# Altium footprint library CustomFootprints.PcbLib: 67 footprints (part 1 of 5)
Each footprint in its own frame and in the unit in brackets; x right, y up, seen from the top. Pads: shape width x height; smd on the part's side, far side on the other; paste and mask are expansions set on the pad; w line width, h text height; cw(c..) or ccw(c..) is an arc to the next point about the centre after c.
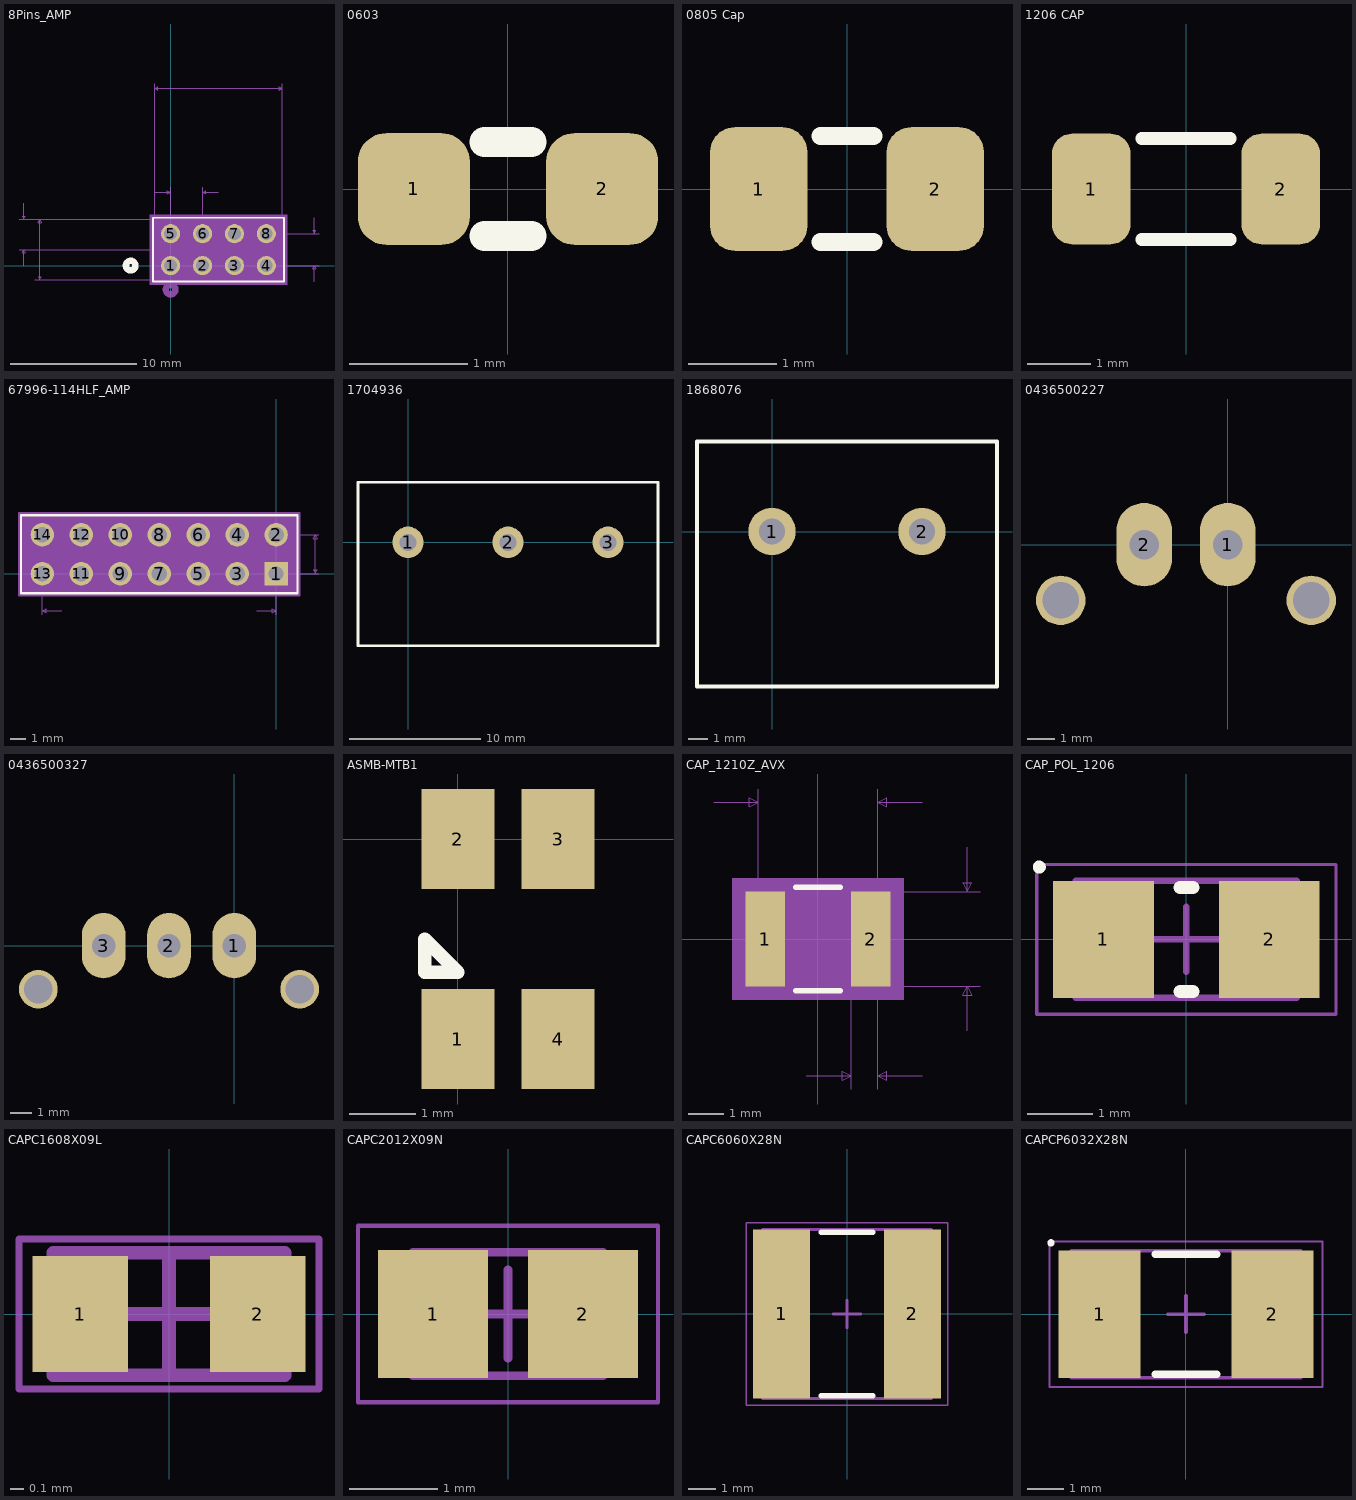
[diagram p0: the footprints below, top view; thin cyan lines are the x and y axes]

## 8Pins_AMP [mil]
pads (8):
  round 60 hole 40 mask+0: 1(0,0) 2(100,0) 3(200,0) 4(300,0) 5(0,100) 6(100,100) 7(200,100) 8(300,100)
Top Overlay:
  circle w20: c-125,0 r15
  lines w6: -55,-50 -55,150 355,150 355,-50 -55,-50
Bottom Overlay:
  circle w20: c-125,0 r15
Mechanical 5:
  region: -65,160 365,160 365,-60 -65,-60
Mechanical 7:
  lines w1: -475,50 150,50 ; -475,145 -50,145 ; -460,0 -460,50 ; -460,195 -460,145 ; -425,-45 -50,-45 ; -425,145 -50,145 ; -50,230 0,230 ; -50,570 -50,145 ; 0,100 465,100 ; 0,245 0,0 465,0 ; 100,0 100,245 ; 150,230 100,230 ; 350,145 350,570 ; 450,-50 450,0 ; 450,150 450,100 ; -460,50 -455,40 -465,40 -460,50 ; -460,145 -455,155 -465,155 -460,145 ; -410,-45 -405,-35 -415,-35 -410,-45 ; -410,-45 -410,145 ; -410,145 -405,135 -415,135 -410,145 ; -50,555 -40,550 -40,560 -50,555 ; -50,555 350,555 ; 0,230 -10,225 -10,235 0,230 ; 100,230 110,225 110,235 100,230 ; 350,555 340,550 340,560 350,555 ; 450,0 455,-10 445,-10 450,0 ; 450,100 455,110 445,110 450,100
  text "0.19in/4.826mm" at -605,37.5 h25
  text "0.095in/2.413mm" at -667.5,85 h25
  text "0.1in/2.54mm" at 470,37.5 h25
  text "0.4in/10.16mm" at 68.75,575 h25
  text "0.1in/2.54mm" at -50,250 h25
  text "Alt Padstyle 2: OX90Y60D30P" at -187.5,-730 h50
  text "Alt Padstyle 1: OX60Y90D30P" at -187.5,-655 h50
  text "Right Mtg Padstyle: EX60Y60D30P" at -237.5,-580 h50
  text "Left Mtg Padstyle: EX60Y60D30P" at -225,-505 h50
  text "3rd Mtg Padstyle: EX70Y70D70P" at -212.5,-430 h50
  text "2nd Mtg Padstyle: EX70Y70D70P" at -212.5,-355 h50
  text "1st Mtg Padstyle: EX80Y80D50P" at -212.5,-280 h50
  text "Default Padstyle: EX60Y60D40P" at -212.5,-205 h50
Mechanical 13:
  circle w20: c0,-75 r15
  lines w1: -50,-45 -50,145 350,145 350,-45 -50,-45
Mechanical 15:
  region: 360,155 -60,155 -60,-55 360,-55
  lines w6: -60,-55 360,-55 360,155 -60,155 -60,-55
3D body: height 10, standoff 0, extent 0,0 10,10

## 0603 [mm]
height 1.3
pads (2):
  rrect50% 0.95x0.95 smd: 1(-0.8,0) 2(0.8,0)
Top Overlay:
  lines w0.254: -0.2,-0.4 0.2,-0.4 ; -0.2,0.4 0.2,0.4
3D body "0603 SMD.STEP": height 0.9, standoff 0, extent -0.8,-0.4 0.8,0.4

## 0805 Cap [mm]
pads (2):
  rrect50% 1.1x1.4 smd: 1(-1,0) 2(1,0)
Top Overlay:
  lines w0.2: -0.3,-0.6 0.3,-0.6 ; -0.3,0.6 0.3,0.6
3D body "0805 SMD Capacitor.step": height 0.78, standoff 0, extent -1,-0.625 1,0.625

## 1206 CAP [mm]
pads (2):
  rrect50% 1.25x1.75 smd: 1(-1.5,0) 2(1.5,0)
Top Overlay:
  lines w0.2: -0.7,-0.8 0.7,-0.8 ; -0.7,0.8 0.7,0.8
3D body "1206 SMD Resistor.step": height 1, standoff 0, extent -1.6,-0.8 1.6,0.8

## 67996-114HLF_AMP [mil]
pads (14):
  rect 60x60 hole 38 mask+0: 1(0,0)
  round 60 hole 40 mask+0: 2(0,100) 3(-100,0) 4(-100,100) 5(-200,0) 6(-200,100) 7(-300,0) 8(-300,100) 9(-400,0) 10(-400,100) 11(-500,0) 12(-500,100) 13(-600,0) 14(-600,100)
Top Overlay:
  lines w6: -655,-50 55,-50 55,150 -655,150 -655,-50
Mechanical 5:
  region: 57.5,-52.5 -657.5,-52.5 -657.5,152.5 57.5,152.5
Mechanical 7:
  lines w1: -600,-105 -600,-40 ; -550,-95 -600,-95 ; -50,-95 0,-95 ; 0,-105 0,-40 ; 40,0 110,0 ; 40,100 110,100 ; -600,-95 -590,-100 -590,-90 -600,-95 ; 0,-95 -10,-100 -10,-90 0,-95 ; 100,0 100,100 ; 100,0 95,10 105,10 100,0 ; 100,100 95,90 105,90 100,100
  text ".6in/15.24mm (7 @ .1in/3mm)" at -468.75,-120 h25
Mechanical 13:
  circle w0: c0,-30 r10
  lines w1: -650,-45 50,-45 50,145 -650,145 -650,-45
Mechanical 15:
  region: 60,155 -660,155 -660,-55 60,-55
  lines w6: -660,-55 -660,155 60,155 60,-55 -660,-55
3D body: height 10, standoff 0, extent 0,0 10,10
3D body "CON14_2X7_TU_TSW.step": height 500, standoff -200, extent -645.27,-50.78 54.73,149.22

## 1704936 [mm] "CONN TERM BLOCK 3POS 7.62MM"
height 22
pads (3):
  round 2.4 hole 1.3: 1(0,0) 2(7.62,0) 3(15.24,0)
Top Overlay:
  lines w0.2: -3.81,-7.874 -3.81,4.572 19.05,4.572 19.05,-7.874 -3.81,-7.874

## 1868076 [mm] "CONN TERM BLOCK 2POS 7.62MM"
height 22
pads (2):
  round 2.4 hole 1.3: 1(0,0) 2(7.62,0)
Top Overlay:
  lines w0.2: -3.81,-7.874 11.43,-7.874 11.43,4.572 -3.81,4.572 -3.81,-7.874

## 0436500227 [mm]
pads (4):
  oval 2x3 hole 1.07: 1(0,0) 2(-3,0)
  round 1.778 hole 1.321: ""(-6,-2) ""(3,-2)
3D body "436500227.stp": height 3.13, standoff -9.95, extent -6.325,-2.5 3.325,3.105
3D body: height 0, standoff 0, extent -6.991,-2.991 3.991,1.602

## 0436500327 [mm]
pads (5):
  oval 2x3 hole 1.07: 1(0,0) 2(-3,0) 3(-6,0)
  round 1.778 hole 1.321: ""(-9,-2) ""(3,-2)
Top Layer keep-out:
  region: -9,3.5
3D body "436500327.stp": height 4.95, standoff -8.13, extent -9.325,-2.605 3.325,3
3D body: height 0, standoff 0, extent -9.991,-2.991 3.991,3.5

## ASMB-MTB1 [mm]
pads (4):
  rect 1.1x1.5 smd: 1(0,-3) 2(0,0) 3(1.5,0) 4(1.5,-3)
Top Overlay:
  lines w0.2: -0.5,-2 -0.5,-1.5 0,-2 ; -0.5,-2 0,-2 ; -0.5,-2 0,-2

## CAP_1210Z_AVX [mil]
pads (2):
  rect 44x106 smd paste+0 mask+0: 1(-59,0) 2(59,0)
Top Overlay:
  lines w6: -24.89,-58 24.89,-58 ; -24.89,58 24.89,58
Mechanical 5:
  region: 96,-68 -96,-68 -96,68 96,68
Mechanical 7:
  lines w1: -117,153 -67,153 ; -67,0 -67,168 ; -13,-153 37,-153 ; 0,-53 182,-53 ; 0,53 182,53 ; 37,-168 37,0 ; 67,-168 67,0 67,168 ; 117,-153 67,-153 ; 117,153 67,153 ; 167,-103 167,-53 ; 167,103 167,53 ; -67,153 -77,158 -77,148 -67,153 ; 37,-153 27,-148 27,-158 37,-153 ; 67,-153 77,-148 77,-158 67,-153 ; 67,153 77,158 77,148 67,153 ; 167,-53 162,-63 172,-63 167,-53 ; 167,53 162,63 172,63 167,53
  text "Default Padstyle: RX44Y106D0T" at -362.5,-323 h50
  text "Alternate 1 Padstyle: OX60Y90D30P" at -412.5,-423 h50
  text "Alternate 2 Padstyle: OX90Y60D30P" at -412.5,-523 h50
  text "0.106in/2.692mm" at 187,-12.5 h25
  text "0.134in/3.404mm" at -93.75,173 h25
  text "0.03in/0.762mm" at -35.5,-198 h25
Mechanical 13:
  lines w1: -67,-53 -67,53 ; -67,-53 -37,-53 -37,53 -67,53 ; -67,-53 67,-53 ; -67,-53 -67,53 ; -67,53 67,53 ; 67,-53 37,-53 37,53 67,53 ; 67,-53 67,53 ; 67,-53 67,53
Mechanical 15:
  region: 91,-63 -91,-63 -91,63 91,63
  lines w6: -91,-63 -91,63 91,63 91,-63 -91,-63
3D body: height 10, standoff 0, extent 0,0 10,10

## CAP_POL_1206 [mm] "Chip Capacitor, 2-Leads, Body 3.20x1.60mm, IPC Medium Density"
height 1.8
pads (2):
  rect 1.55x1.8 smd: 1(-1.275,0) 2(1.275,0)
Top Overlay:
  circle w0.1: c-2.262,1.112 r0.05
  lines w0.2: -0.1,-0.8 0.1,-0.8 ; -0.1,0.8 0.1,0.8
Mechanical 13:
  lines w0.1: -1.7,-0.9 -1.7,0.9 1.7,0.9 1.7,-0.9 -1.7,-0.9
Mechanical 15:
  lines w0.05: -2.3,-1.15 -2.3,1.15 2.3,1.15 2.3,-1.15 -2.3,-1.15
  lines w0.1: -0.5,0 0.5,0 ; 0,-0.5 0,0.5
3D body: height 1.8, standoff 0, extent -0.9,-0.9 0.9,0.9
3D body: height 1.8, standoff 0, extent -1.7,-0.9 -0.9,0.9
3D body: height 1.8, standoff 0, extent 0.9,-0.9 1.7,0.9

## CAPC1608X09L [mm] "Chip Capacitor, 2-Leads, Body 1.60x0.80mm, IPC High Density"
height 0.9
pads (2):
  rect 0.7x0.85 smd: 1(-0.65,0) 2(0.65,0)
Mechanical 13:
  lines w0.1: -0.85,-0.45 -0.85,0.45 0.85,0.45 0.85,-0.45 -0.85,-0.45
Mechanical 15:
  lines w0.05: -1.1,-0.55 -1.1,0.55 1.1,0.55 1.1,-0.55 -1.1,-0.55
  lines w0.1: -0.45,0 0.45,0 ; 0,-0.45 0,0.45
3D body: height 0.9, standoff 0, extent -0.55,-0.45 0.55,0.45
3D body: height 0.9, standoff 0, extent -0.85,-0.45 -0.55,0.45
3D body: height 0.9, standoff 0, extent 0.55,-0.45 0.85,0.45

## CAPC2012X09N [mm] "Chip Capacitor, 2-Leads, Body 2.00x1.25mm, IPC Medium Density"
height 0.95
pads (2):
  rect 1.25x1.45 smd: 1(-0.85,0) 2(0.85,0)
Mechanical 13:
  lines w0.1: -1.075,-0.7 1.075,-0.7 1.075,0.7 -1.075,0.7 -1.075,-0.7
Mechanical 15:
  lines w0.05: -1.7,-1 1.7,-1 1.7,1 -1.7,1 -1.7,-1
  lines w0.1: -0.5,0 0.5,0 ; 0,-0.5 0,0.5
3D body: height 0.95, standoff 0, extent 0.625,-0.7 1.075,0.7
3D body: height 0.95, standoff 0, extent -1.075,-0.7 -0.625,0.7
3D body: height 0.95, standoff 0, extent -0.625,-0.7 0.625,0.7

## CAPC6060X28N [mm] "Chip Capacitor, 2-Leads, Body 6.00x6.00mm, IPC Medium Density"
height 2.8
pads (2):
  rect 2.1x6.2 smd: 1(-2.4,0) 2(2.4,0)
Top Overlay:
  lines w0.2: -0.95,-3 0.95,-3 ; -0.95,3 0.95,3
Mechanical 13:
  lines w0.1: -3.1,-3.1 -3.1,3.1 3.1,3.1 3.1,-3.1 -3.1,-3.1
Mechanical 15:
  lines w0.05: -3.7,-3.35 -3.7,3.35 3.7,3.35 3.7,-3.35 -3.7,-3.35
  lines w0.1: -0.5,0 0.5,0 ; 0,-0.5 0,0.5
3D body: height 2.8, standoff 0, extent -1.75,-3.1 1.75,3.1
3D body: height 2.8, standoff 0, extent -3.1,-3.1 -1.75,3.1
3D body: height 2.8, standoff 0, extent 1.75,-3.1 3.1,3.1

## CAPCP6032X28N [mm] "Chip Capacitor, 2-Leads, Body 6.00x3.20mm, IPC Medium Density"
height 2.8
pads (2):
  rect 2.25x3.5 smd: 1(-2.375,0) 2(2.375,0)
Top Overlay:
  circle w0.1: c-3.712,1.962 r0.05
  lines w0.2: -0.85,-1.65 0.85,-1.65 ; -0.85,1.65 0.85,1.65
Mechanical 13:
  lines w0.1: -3.15,-1.75 3.15,-1.75 3.15,1.75 -3.15,1.75 -3.15,-1.75
Mechanical 15:
  lines w0.05: -3.75,-2 3.75,-2 3.75,2 -3.75,2 -3.75,-2
  lines w0.1: -0.5,0 0.5,0 ; 0,-0.5 0,0.5
3D body: height 2.8, standoff 0, extent 1.85,-1.75 3.15,1.75
3D body: height 2.8, standoff 0, extent -3.15,-1.75 -1.85,1.75
3D body: height 2.8, standoff 0, extent -1.85,-1.75 1.85,1.75